# Altium footprint library LTC2311HMSE-16PBF.PcbLib: 3 footprints
Each footprint in its own frame and in the unit in brackets; x right, y up, seen from the top. Pads: shape width x height; smd on the part's side, far side on the other; paste and mask are expansions set on the pad; w line width, h text height; cw(c..) or ccw(c..) is an arc to the next point about the centre after c.
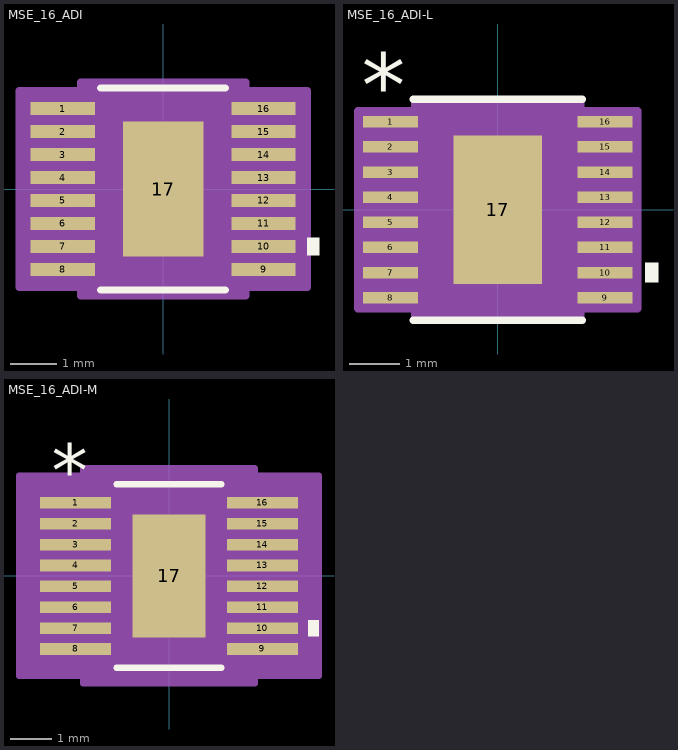
[diagram p0: the footprints below, top view; thin cyan lines are the x and y axes]

## MSE_16_ADI [mil]
pads (17):
  rect 55x11 smd paste+0 mask+0: 1(-86,68.9) 2(-86,49.21) 3(-86,29.53) 4(-86,9.84) 5(-86,-9.84) 6(-86,-29.53) 7(-86,-49.21) 8(-86,-68.9) 9(86,-68.9) 10(86,-49.21) 11(86,-29.53) 12(86,-9.84) 13(86,9.84) 14(86,29.53) 15(86,49.21) 16(86,68.9)
  rect 69x116 smd paste-57.5 mask+0: 17(0,0)
Top Overlay:
  region: 123.5,-41.71 133.5,-41.71 133.5,-56.71 123.5,-56.71
  lines w6: -53.49,-86.5 53.49,-86.5 ; -53.49,86.5 53.49,86.5
Top Paste:
  region: 30.56,-3.94 -30.56,-3.94 -30.56,-54.06 30.56,-54.06
  region: 30.56,54.06 -30.56,54.06 -30.56,3.94 30.56,3.94
Mechanical 13:
  lines w0: -12,81.5 ccw(c0,81.5) 12,81.5
  lines w1: -99.5,-74.4 -61,-74.4 -61,-63.4 -99.5,-63.4 -99.5,-74.4 ; -99.5,-54.71 -61,-54.71 -61,-43.71 -99.5,-43.71 -99.5,-54.71 ; -99.5,-35.03 -61,-35.03 -61,-24.03 -99.5,-24.03 -99.5,-35.03 ; -99.5,-15.34 -61,-15.34 -61,-4.34 -99.5,-4.34 -99.5,-15.34 ; -99.5,4.34 -61,4.34 -61,15.34 -99.5,15.34 -99.5,4.34 ; -99.5,24.03 -61,24.03 -61,35.03 -99.5,35.03 -99.5,24.03 ; -99.5,43.71 -61,43.71 -61,54.71 -99.5,54.71 -99.5,43.71 ; -99.5,63.4 -61,63.4 -61,74.4 -99.5,74.4 -99.5,63.4 ; -61,-81.5 -61,81.5 61,81.5 61,-81.5 -61,-81.5 ; 61,-74.4 99.5,-74.4 99.5,-63.4 61,-63.4 61,-74.4 ; 61,-54.71 99.5,-54.71 99.5,-43.71 61,-43.71 61,-54.71 ; 61,-35.03 99.5,-35.03 99.5,-24.03 61,-24.03 61,-35.03 ; 61,-15.34 99.5,-15.34 99.5,-4.34 61,-4.34 61,-15.34 ; 61,4.34 99.5,4.34 99.5,15.34 61,15.34 61,4.34 ; 61,24.03 99.5,24.03 99.5,35.03 61,35.03 61,24.03 ; 61,43.71 99.5,43.71 99.5,54.71 61,54.71 61,43.71 ; 61,63.4 99.5,63.4 99.5,74.4 61,74.4 61,63.4
  text "*" at -58.5,28.5 h50
Mechanical 15:
  region: -71,-84.4 -123.5,-84.4 -123.5,84.4 -71,84.4 -71,91.5 71,91.5 71,84.4 123.5,84.4 123.5,-84.4 71,-84.4 71,-91.5 -71,-91.5
  lines w6: -123.5,-84.4 -71,-84.4 -71,-91.5 71,-91.5 71,-84.4 123.5,-84.4 123.5,84.4 71,84.4 71,91.5 -71,91.5 -71,84.4 -123.5,84.4 -123.5,-84.4
3D body "MSE_16_ADI.step": height 43.11, standoff 0, extent -99.49,-81.5 99.49,81.5

## MSE_16_ADI-L [mil]
pads (17):
  rect 43x9 smd paste+0 mask+0: 1(-84,68.9) 2(-84,49.21) 3(-84,29.53) 4(-84,9.84) 5(-84,-9.84) 6(-84,-29.53) 7(-84,-49.21) 8(-84,-68.9) 9(84,-68.9) 10(84,-49.21) 11(84,-29.53) 12(84,-9.84) 13(84,9.84) 14(84,29.53) 15(84,49.21) 16(84,68.9)
  rect 69x116 smd paste-57.5 mask+0: 17(0,0)
Top Overlay:
  region: 115.5,-41.71 125.5,-41.71 125.5,-56.71 115.5,-56.71
  lines w6: -66,-86.5 66,-86.5 ; -66,86.5 66,86.5
  text "*" at -106.5,72.9 h50
Top Paste:
  region: 30.56,54.06 -30.56,54.06 -30.56,3.94 30.56,3.94
  region: 30.56,-3.94 -30.56,-3.94 -30.56,-54.06 30.56,-54.06
Mechanical 13:
  lines w0: -12,81.5 ccw(c0,81.5) 12,81.5
  lines w1: -99.5,-74.4 -99.5,-63.4 -61,-63.4 -61,-74.4 -99.5,-74.4 ; -99.5,-54.71 -99.5,-43.71 -61,-43.71 -61,-54.71 -99.5,-54.71 ; -99.5,-35.03 -99.5,-24.03 -61,-24.03 -61,-35.03 -99.5,-35.03 ; -99.5,-15.34 -99.5,-4.34 -61,-4.34 -61,-15.34 -99.5,-15.34 ; -99.5,4.34 -99.5,15.34 -61,15.34 -61,4.34 -99.5,4.34 ; -99.5,24.03 -99.5,35.03 -61,35.03 -61,24.03 -99.5,24.03 ; -99.5,43.71 -99.5,54.71 -61,54.71 -61,43.71 -99.5,43.71 ; -99.5,63.4 -99.5,74.4 -61,74.4 -61,63.4 -99.5,63.4 ; -61,-81.5 61,-81.5 61,81.5 -61,81.5 -61,-81.5 ; 61,-74.4 61,-63.4 99.5,-63.4 99.5,-74.4 61,-74.4 ; 61,-54.71 61,-43.71 99.5,-43.71 99.5,-54.71 61,-54.71 ; 61,-35.03 61,-24.03 99.5,-24.03 99.5,-35.03 61,-35.03 ; 61,-15.34 61,-4.34 99.5,-4.34 99.5,-15.34 61,-15.34 ; 61,4.34 61,15.34 99.5,15.34 99.5,4.34 61,4.34 ; 61,24.03 61,35.03 99.5,35.03 99.5,24.03 61,24.03 ; 61,43.71 61,54.71 99.5,54.71 99.5,43.71 61,43.71 ; 61,63.4 61,74.4 99.5,74.4 99.5,63.4 61,63.4
  text "*" at -58.5,28.5 h50
Mechanical 15:
  region: -65,-77.4 -109.5,-77.4 -109.5,77.4 -65,77.4 -65,85.5 65,85.5 65,77.4 109.5,77.4 109.5,-77.4 65,-77.4 65,-85.5 -65,-85.5
  lines w6: -109.5,-77.4 -109.5,77.4 -65,77.4 -65,85.5 65,85.5 65,77.4 109.5,77.4 109.5,-77.4 65,-77.4 65,-85.5 -65,-85.5 -65,-77.4 -109.5,-77.4
3D body "MSE_16_ADI.step": height 43.11, standoff 0, extent -99.49,-81.5 99.49,81.5

## MSE_16_ADI-M [mil]
pads (17):
  rect 67x11 smd paste+0 mask+0: 1(-88,68.9) 2(-88,49.21) 3(-88,29.53) 4(-88,9.84) 5(-88,-9.84) 6(-88,-29.53) 7(-88,-49.21) 8(-88,-68.9) 9(88,-68.9) 10(88,-49.21) 11(88,-29.53) 12(88,-9.84) 13(88,9.84) 14(88,29.53) 15(88,49.21) 16(88,68.9)
  rect 69x116 smd paste-57.5 mask+0: 17(0,0)
Top Overlay:
  region: 131.5,-41.71 141.5,-41.71 141.5,-56.71 131.5,-56.71
  lines w6: -49.49,-86.5 49.49,-86.5 ; -49.49,86.5 49.49,86.5
  text "*" at -110.5,74.9 h50
Top Paste:
  region: 30.56,54.06 -30.56,54.06 -30.56,3.94 30.56,3.94
  region: 30.56,-3.94 -30.56,-3.94 -30.56,-54.06 30.56,-54.06
Mechanical 13:
  lines w0: -12,81.5 ccw(c0,81.5) 12,81.5
  lines w1: -99.5,-74.4 -99.5,-63.4 -61,-63.4 -61,-74.4 -99.5,-74.4 ; -99.5,-54.71 -99.5,-43.71 -61,-43.71 -61,-54.71 -99.5,-54.71 ; -99.5,-35.03 -99.5,-24.03 -61,-24.03 -61,-35.03 -99.5,-35.03 ; -99.5,-15.34 -99.5,-4.34 -61,-4.34 -61,-15.34 -99.5,-15.34 ; -99.5,4.34 -99.5,15.34 -61,15.34 -61,4.34 -99.5,4.34 ; -99.5,24.03 -99.5,35.03 -61,35.03 -61,24.03 -99.5,24.03 ; -99.5,43.71 -99.5,54.71 -61,54.71 -61,43.71 -99.5,43.71 ; -99.5,63.4 -99.5,74.4 -61,74.4 -61,63.4 -99.5,63.4 ; -61,-81.5 61,-81.5 61,81.5 -61,81.5 -61,-81.5 ; 61,-74.4 61,-63.4 99.5,-63.4 99.5,-74.4 61,-74.4 ; 61,-54.71 61,-43.71 99.5,-43.71 99.5,-54.71 61,-54.71 ; 61,-35.03 61,-24.03 99.5,-24.03 99.5,-35.03 61,-35.03 ; 61,-15.34 61,-4.34 99.5,-4.34 99.5,-15.34 61,-15.34 ; 61,4.34 61,15.34 99.5,15.34 99.5,4.34 61,4.34 ; 61,24.03 61,35.03 99.5,35.03 99.5,24.03 61,24.03 ; 61,43.71 61,54.71 99.5,54.71 99.5,43.71 61,43.71 ; 61,63.4 61,74.4 99.5,74.4 99.5,63.4 61,63.4
  text "*" at -58.5,28.5 h50
Mechanical 15:
  region: -81,-94.4 -141.5,-94.4 -141.5,94.4 -81,94.4 -81,101.5 81,101.5 81,94.4 141.5,94.4 141.5,-94.4 81,-94.4 81,-101.5 -81,-101.5
  lines w6: -141.5,-94.4 -141.5,94.4 -81,94.4 -81,101.5 81,101.5 81,94.4 141.5,94.4 141.5,-94.4 81,-94.4 81,-101.5 -81,-101.5 -81,-94.4 -141.5,-94.4
3D body "MSE_16_ADI.step": height 43.11, standoff 0, extent -99.49,-81.5 99.49,81.5